# EAGLE library part AE-FT2232 (library PartsForProto)
ＦＴ２２３２Ｄ ＵＳＢ－シリアル２ｃｈ変換モジュール シリアル／パラレル混在動作も可能。 仮想ＣＯＭポートモードにより、Ｗｉｎｄｏｗｓ標準のＣＯＭポートが２ポート増設されます。 ■ＦＴ２２３２はＦＴ２３２とＦＴ２４５の機能２個が１チップに内蔵されています。 ■通信速度３００ｂｐｓ～１０００ｋｂｐｓ（ＲＳ２３２） ■３８４バイト受信バッファ、１２８バイト送信バッファ内蔵 ■ビットバングモードを各チャンネルで使用可能。 ■寸法：２０ｍｍｘ６０．３ｍｍｘ１８．７ｍｍ
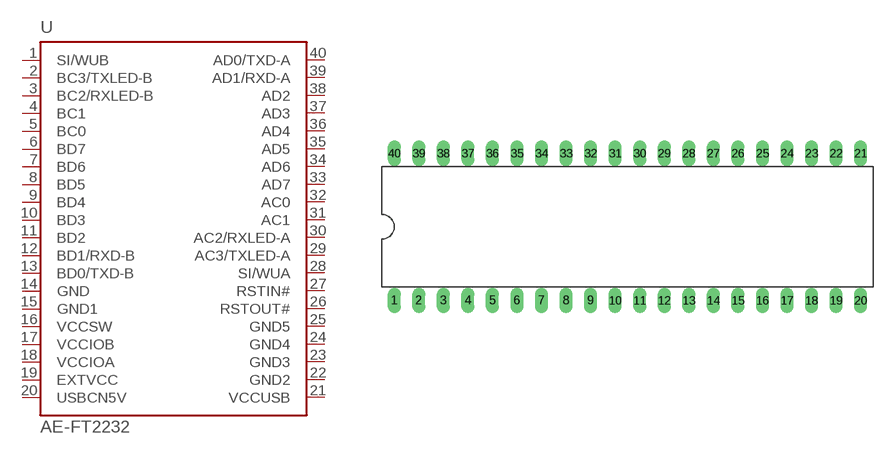
[diagram p1: symbol with the pads of DIL40; footprint DIL40]

Designator prefix U

## AE-FT2232  [DIL40]
1  SI/WUB
2  BC3/TXLED-B
3  BC2/RXLED-B
4  BC1
5  BC0
6  BD7
7  BD6
8  BD5
9  BD4
10  BD3
11  BD2
12  BD1/RXD-B
13  BD0/TXD-B
14  GND  pas
15  GND1  pas
16  VCCSW  pas
17  VCCIOB  pas
18  VCCIOA  pas
19  EXTVCC  pas
20  USBCN5V  pas
21  VCCUSB  pas
22  GND2  pas
23  GND3  pas
24  GND4  pas
25  GND5  pas
26  RSTOUT#
27  RSTIN#
28  SI/WUA
29  AC3/TXLED-A
30  AC2/RXLED-A
31  AC1
32  AC0
33  AD7
34  AD6
35  AD5
36  AD4
37  AD3
38  AD2
39  AD1/RXD-A
40  AD0/TXD-A

## Footprint DIL40 (pad centres in mm)
Dual In Line package type P
drill 0.813 long: 1 -24.13,-7.62; 2 -21.59,-7.62; 3 -19.05,-7.62; 4 -16.51,-7.62; 5 -13.97,-7.62; 6 -11.43,-7.62; 7 -8.89,-7.62; 8 -6.35,-7.62; 9 -3.81,-7.62; 10 -1.27,-7.62; 11 1.27,-7.62; 12 3.81,-7.62; 13 6.35,-7.62; 14 8.89,-7.62; 15 11.43,-7.62; 16 13.97,-7.62; 17 16.51,-7.62; 18 19.05,-7.62; 19 21.59,-7.62; 20 24.13,-7.62; 21 24.13,7.62; 22 21.59,7.62; 23 19.05,7.62; 24 16.51,7.62; 25 13.97,7.62; 26 11.43,7.62; 27 8.89,7.62; 28 6.35,7.62; 29 3.81,7.62; 30 1.27,7.62; 31 -1.27,7.62; 32 -3.81,7.62; 33 -6.35,7.62; 34 -8.89,7.62; 35 -11.43,7.62; 36 -13.97,7.62; 37 -16.51,7.62; 38 -19.05,7.62; 39 -21.59,7.62; 40 -24.13,7.62